# Altium schematic symbol library Regulator.Schlib: 8 symbols
Pins are listed as number, name and electrical type; pins without a type are passive.

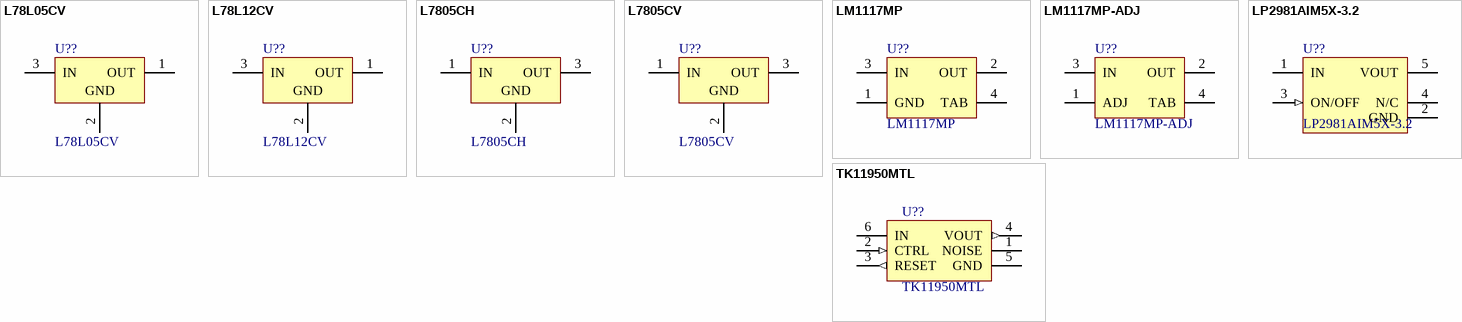
[diagram p0: symbols L78L05CV to TK11950MTL]

## L78L05CV
designator U??
Positive Voltage Regulator
footprint TO92 (TO, Flat Index; 3 In-Line, Axial Leads; Body Dia. 4.8mm; Leads 0.48 x 0.5 mm (max))
pins: 1 OUT (power), 2 GND (power), 3 IN (power)

## L78L12CV
designator U??
Positive Voltage Regulator
footprint TO92 (TO, Flat Index; 3 In-Line, Axial Leads; Body Dia. 4.8mm; Leads 0.48 x 0.5 mm (max))
pins: 1 OUT (power), 2 GND (power), 3 IN (power)

## L7805CH
designator U??
Positive Voltage Regulator
footprint TO-220AH (TO, Thru-Hole, Vertical, Heatsink Mounted; 3 In-Line Leads; Pitch 2.54 mm)
pins: 1 IN (power), 2 GND (power), 3 OUT (power)

## L7805CV
designator U??
Positive Voltage Regulator
footprint TO-220A (TO, Thru-Hole, Vertical, Heatsink Mounted; 3 In-Line Leads; Pitch 2.54 mm)
pins: 1 IN (power), 2 GND (power), 3 OUT (power)

## LM1117MP
designator U??
800mA Low-Dropout Linear Regulator
footprint SOT223 (SOT223, 4-Leads, Body 6.5x3.5mm, Pitch 2.3mm, Lead Span 7mm, IPC Low Density)
pins: 1 GND (power), 2 OUT, 3 IN, 4 TAB

## LM1117MP-ADJ
designator U??
800mA Low-Dropout Linear Regulator
footprint SOT223 (SOT223, 4-Leads, Body 6.5x3.5mm, Pitch 2.3mm, Lead Span 7mm, IPC Low Density)
pins: 1 ADJ, 2 OUT, 3 IN, 4 TAB

## LP2981AIM5X-3.2
designator U??
Micropower 100 mA Ultra Low-Dropout Regulator in SOT-23
footprint SOT23-6 (SOT-23/SC-74A; 5 Leads; Body 3.1 x 3 mm, inc. leads (LxW max))
pins: 1 IN, 2 GND, 3 ON/OFF (in), 4 N/C, 5 VOUT (power)

## TK11950MTL
designator U??
Regulator with Reset Output and ON/OFF Switch, fixed output 5.0V
footprint SOT23-6 (SOT-23/SC-74A; 5 Leads; Body 3.1 x 3 mm, inc. leads (LxW max))
pins: 1 NOISE, 2 CTRL (in), 3 RESET (out), 4 VOUT (out), 5 GND, 6 IN